# EAGLE library part ATMEGA32*DIP (library IC_Embedded)
8-bit Microcontroller with 32KBytes In-System Programmable Flash Datasheet <http://ww1.microchip.com/downloads/en/DeviceDoc/doc2503.pdf>
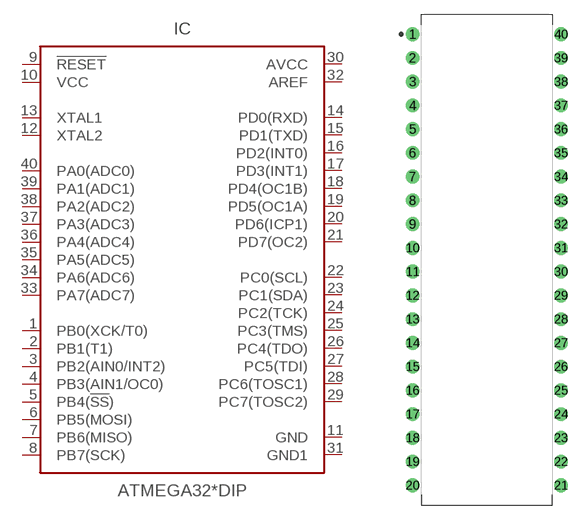
[diagram p20: symbol with the pads of DIP1587W56P254L5229H482Q40B; footprint DIP1587W56P254L5229H482Q40B]

Designator prefix IC

## ATMEGA32-16PU_DIP (CATEGORY: IC_Embedded; DESCRIPTION: IC MCU 8BIT 32KB FLASH 40DIP; MANUFACTURER: Microchip Technology; MPN: ATMEGA32-16PU; OPERATING_TEMP: -40°C to 85°C; PART_STATUS: Active; SERIES: AVR® ATmega; SPEED: 16MHz; SUB-CATEGORY: Microcontroller; VALUE: ATMEGA16), ATMEGA32A-PN_DIP (CATEGORY: IC_Embedded; DESCRIPTION: IC MCU 8BIT 32KB FLASH 40DIP; MANUFACTURER: Microchip Technology; MPN: ATMEGA32A-PN; OPERATING_TEMP: -40°C to 105°C; PART_STATUS: Active; SERIES: AVR® ATmega; SPEED: 16MHz; SUB-CATEGORY: Microcontroller; VALUE: ATMEGA16), ATMEGA32A-PU_DIP (CATEGORY: IC_Embedded; DESCRIPTION: IC MCU 8BIT 32KB FLASH 40DIP; MANUFACTURER: Microchip Technology; MPN: ATMEGA32A-PU; OPERATING_TEMP: -40°C to 85°C; PART_STATUS: Active; SERIES: AVR® ATmega; SPEED: 16MHz; SUB-CATEGORY: Microcontroller; VALUE: ATMEGA16), ATMEGA32L-8PU_DIP (CATEGORY: IC_Embedded; DESCRIPTION: IC MCU 8BIT 32KB FLASH 40DIP; MANUFACTURER: Microchip Technology; MPN: ATMEGA32L-8PU; OPERATING_TEMP: -40°C to 85°C; PART_STATUS: Active; SERIES: AVR® ATmega; SPEED: 8MHz; SUB-CATEGORY: Microcontroller; VALUE: ATMEGA16)  [DIP1587W56P254L5229H482Q40B]
1  PB0(XCK/T0)
2  PB1(T1)
3  PB2(AIN0/INT2)
4  PB3(AIN1/OC0)
5  PB4(!SS!)
6  PB5(MOSI)
7  PB6(MISO)
8  PB7(SCK)
9  !RESET!  in
10  VCC  pwr
11  GND  pwr
12  XTAL2  pas
13  XTAL1  pas
14  PD0(RXD)
15  PD1(TXD)
16  PD2(INT0)
17  PD3(INT1)
18  PD4(OC1B)
19  PD5(OC1A)
20  PD6(ICP1)
21  PD7(OC2)
22  PC0(SCL)
23  PC1(SDA)
24  PC2(TCK)  in
25  PC3(TMS)  in
26  PC4(TDO)  out
27  PC5(TDI)  in
28  PC6(TOSC1)
29  PC7(TOSC2)
30  AVCC  pwr
31  GND1  pwr
32  AREF  pas
33  PA7(ADC7)
34  PA6(ADC6)
35  PA5(ADC5)
36  PA4(ADC4)
37  PA3(ADC3)
38  PA2(ADC2)
39  PA1(ADC1)
40  PA0(ADC0)

## Footprint DIP1587W56P254L5229H482Q40B (pad centres in mm)
40-DIP, 2.54 mm (0.10 in) pitch, 15.88 mm (0.63 in) span, 52.30 X 13.71 X 4.83 mm body 40-pin DIP package with 2.54 mm (0.10 in) pitch, 15.88 mm (0.63 in) span with body size 52.30 X 13.71 X 4.83 mm
drill 0.877 pad 1.477: 1 -7.938,24.13; 2 -7.938,21.59; 3 -7.938,19.05; 4 -7.938,16.51; 5 -7.938,13.97; 6 -7.938,11.43; 7 -7.938,8.89; 8 -7.938,6.35; 9 -7.938,3.81; 10 -7.938,1.27; 11 -7.938,-1.27; 12 -7.938,-3.81; 13 -7.938,-6.35; 14 -7.938,-8.89; 15 -7.938,-11.43; 16 -7.938,-13.97; 17 -7.938,-16.51; 18 -7.938,-19.05; 19 -7.938,-21.59; 20 -7.938,-24.13; 21 7.938,-24.13; 22 7.938,-21.59; 23 7.938,-19.05; 24 7.938,-16.51; 25 7.938,-13.97; 26 7.938,-11.43; 27 7.938,-8.89; 28 7.938,-6.35; 29 7.938,-3.81; 30 7.938,-1.27; 31 7.938,1.27; 32 7.938,3.81; 33 7.938,6.35; 34 7.938,8.89; 35 7.938,11.43; 36 7.938,13.97; 37 7.938,16.51; 38 7.938,19.05; 39 7.938,21.59; 40 7.938,24.13